# Altium schematic symbol library 1977477-2.SchLib: 1 symbol
Pins are listed as number, name and electrical type; pins without a type are passive.

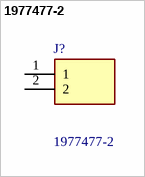
[diagram p0: symbol 1977477-2]

## 1977477-2
designator J?
Body Features: Barrier Strip Style Dual Barrier | Primary Product Color Black | Product Orientation Vertical | Configuration Features: Number of Positions 2 | Number of Levels 1 | Number of Rows 1 | Contact Features: Contact Base Material Brass | PCB Contact Termination Area Plating Material Tin | Contact Current Rating (Max) 15 AMP | Dimensions: Wire Size .326  3.31 MMSQ | Product Length .65 INCH | Wire Size 22  16 AWG | Product Length 16.5 MM | Electrical Characteristics: Operating Voltage 300 V | H; Manufacturer_Name: TE Connectivity; Geometry.Height: 15.1mm; Manufacturer_Part_Number: 1977477-2; Mouser Part Number: 571-1977477-2; Mouser Price/Stock: https://www.mouser.co.uk/ProductDetail/TE-Connectivity/1977477-2?qs=94mdU9cNTDpZiO77z39FFw%3D%3D; Arrow Part Number: 1977477-2; Arrow Price/Stock: https://www.arrow.com/en/products/1977477-2/te-connectivity?region=nac; Datasheet Link: https://www.te.com/commerce/DocumentDelivery/DDEController?Action=srchrtrv&DocNm=6-1773454-9_MODUAL_DUAL_BARRIER&DocType=Data%20Sheet&DocLang=English&PartCntxt=1977477-2&DocFormat=pdf
footprint 19774772
pins: 1, 2